# EAGLE library part TINY26 (library atmel)
ATtiny-26
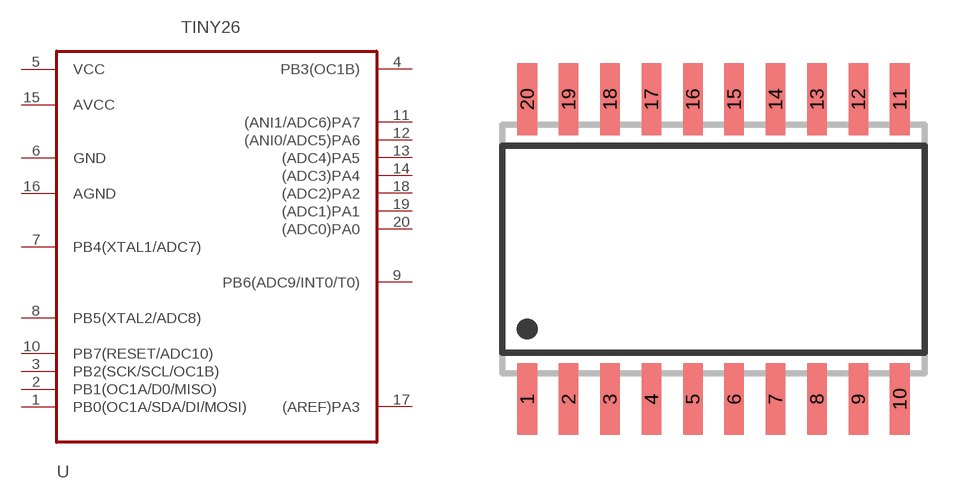
[diagram p47: symbol with the pads of SO20W; footprint SO20W]

Designator prefix U

## TINY26  [SO20W]
1  PB0(OC1A/SDA/DI/MOSI)
2  PB1(OC1A/D0/MISO)
3  PB2(SCK/SCL/OC1B)
4  PB3(OC1B)
5  VCC
6  GND
7  PB4(XTAL1/ADC7)
8  PB5(XTAL2/ADC8)
9  PB6(ADC9/INT0/T0)
10  PB7(RESET/ADC10)
11  (ANI1/ADC6)PA7
12  (ANI0/ADC5)PA6
13  (ADC4)PA5
14  (ADC3)PA4
15  AVCC
16  AGND
17  (AREF)PA3
18  (ADC2)PA2
19  (ADC1)PA1
20  (ADC0)PA0

## Footprint SO20W (pad centres in mm)
SMALL OUTLINE INTEGRATED CIRCUIT wide body 7.5 mm/JEDEC MS-013AC
smd 0.6 x 2.2: 1 -5.715,-4.6; 2 -4.445,-4.6; 3 -3.175,-4.6; 4 -1.905,-4.6; 5 -0.635,-4.6; 6 0.635,-4.6; 7 1.905,-4.6; 8 3.175,-4.6; 9 4.445,-4.6; 10 5.715,-4.6; 11 5.715,4.6; 12 4.445,4.6; 13 3.175,4.6; 14 1.905,4.6; 15 0.635,4.6; 16 -0.635,4.6; 17 -1.905,4.6; 18 -3.175,4.6; 19 -4.445,4.6; 20 -5.715,4.6